# EAGLE library part SN74LVC16374DL (library n64-rgb-dac)
16-BIT EDGE-TRIGGERED D-TYPE FLIP-FLOPS
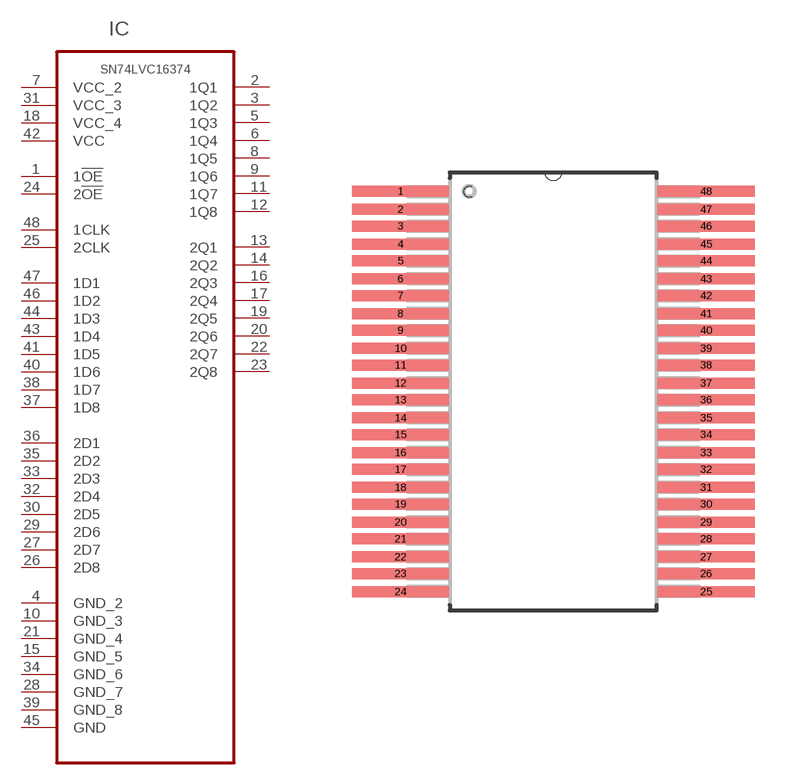
[diagram p6: symbol with the pads of SOP63P1035X279-48N; footprint SOP63P1035X279-48N]

Designator prefix IC

## SN74LVC16374DL (MPN: SN74LVC16374DL; OC_FARNELL: 1739889; OC_NEWARK: 50R6626; PACKAGE: 48-SSOP; SUPPLIER: Texas Instruments)  [SOP63P1035X279-48N]
1  1!OE  in
2  1Q1  out
3  1Q2  out
4  GND_2  pas
5  1Q3  out
6  1Q4  out
7  VCC_2  pwr
8  1Q5  out
9  1Q6  out
10  GND_3  pas
11  1Q7  out
12  1Q8  out
13  2Q1  out
14  2Q2  out
15  GND_5  pas
16  2Q3  out
17  2Q4  out
18  VCC_4  pwr
19  2Q5  out
20  2Q6  out
21  GND_4  pas
22  2Q7  out
23  2Q8  out
24  2!OE  in
25  2CLK  in
26  2D8  in
27  2D7  in
28  GND_7  pas
29  2D6  in
30  2D5  in
31  VCC_3  pwr
32  2D4  in
33  2D3  in
34  GND_6  pas
35  2D2  in
36  2D1  in
37  1D8  in
38  1D7  in
39  GND_8  pas
40  1D6  in
41  1D5  in
42  VCC  pwr
43  1D4  in
44  1D3  in
45  GND  pas
46  1D2  in
47  1D1  in
48  1CLK  in

## Footprint SOP63P1035X279-48N (pad centres in mm)
smd 3.556 x 0.406: 1 -5.588,7.315; 2 -5.588,6.655; 3 -5.588,6.045; 4 -5.588,5.385; 5 -5.588,4.775; 6 -5.588,4.115; 7 -5.588,3.505; 8 -5.588,2.845; 9 -5.588,2.235; 10 -5.588,1.575; 11 -5.588,0.965; 12 -5.588,0.305; 13 -5.588,-0.305; 14 -5.588,-0.965; 15 -5.588,-1.575; 16 -5.588,-2.235; 17 -5.588,-2.845; 18 -5.588,-3.505; 19 -5.588,-4.115; 20 -5.588,-4.775; 21 -5.588,-5.385; 22 -5.588,-6.045; 23 -5.588,-6.655; 24 -5.588,-7.315; 25 5.588,-7.315; 26 5.588,-6.655; 27 5.588,-6.045; 28 5.588,-5.385; 29 5.588,-4.775; 30 5.588,-4.115; 31 5.588,-3.505; 32 5.588,-2.845; 33 5.588,-2.235; 34 5.588,-1.575; 35 5.588,-0.965; 36 5.588,-0.305; 37 5.588,0.305; 38 5.588,0.965; 39 5.588,1.575; 40 5.588,2.235; 41 5.588,2.845; 42 5.588,3.505; 43 5.588,4.115; 44 5.588,4.775; 45 5.588,5.385; 46 5.588,6.045; 47 5.588,6.655; 48 5.588,7.315